# Altium footprint library libreriaPcb.PcbLib: 683 footprints (part 10 of 44)
Each footprint in its own frame and in the unit in brackets; x right, y up, seen from the top. Pads: shape width x height; smd on the part's side, far side on the other; paste and mask are expansions set on the pad; w line width, h text height; cw(c..) or ccw(c..) is an arc to the next point about the centre after c.
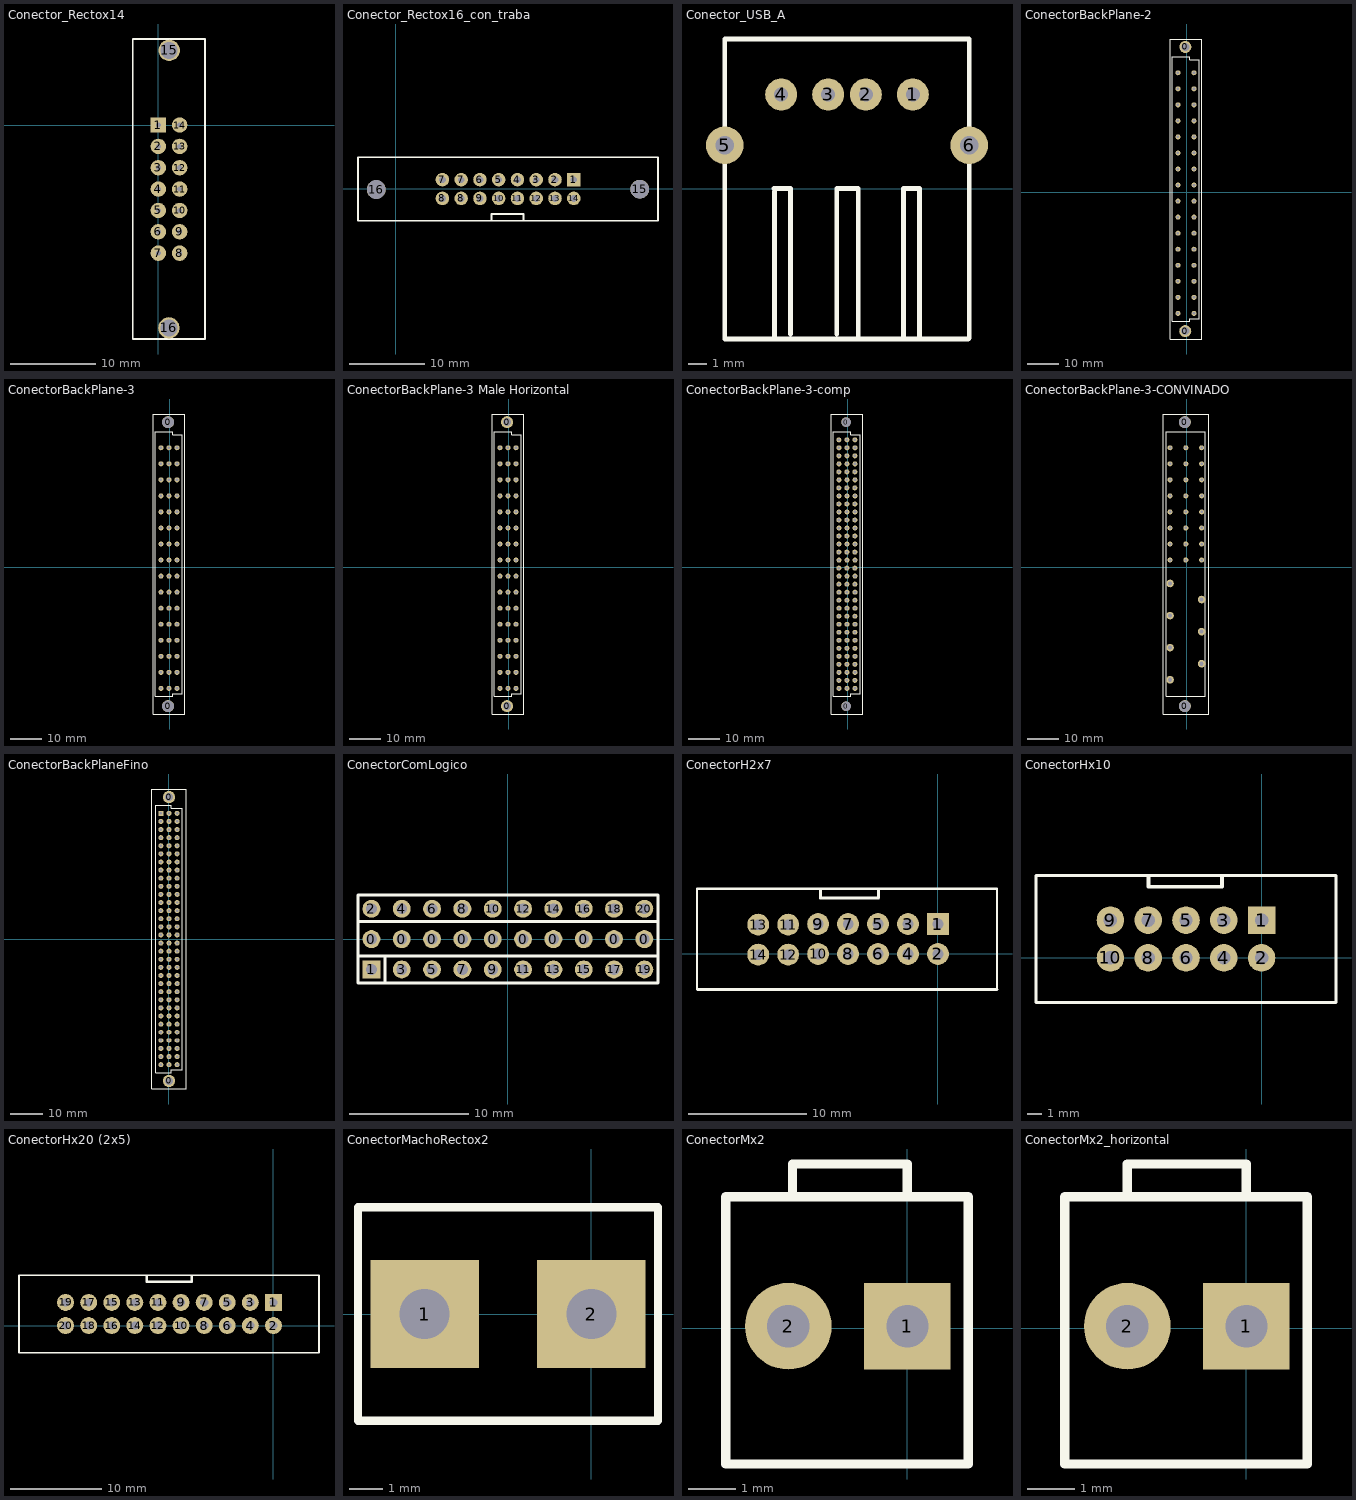
[diagram p9: the footprints below, top view; thin cyan lines are the x and y axes]

## Conector_Rectox14 [mm]
pads (16):
  rect 1.8x1.8 hole 0.6: 1(0,0)
  round 1.8 hole 0.6: 2(0,-2.5) 3(0,-5) 4(0,-7.5) 5(0,-10) 6(0,-12.5) 7(0,-15) 8(2.5,-15) 9(2.5,-12.5) 10(2.5,-10) 11(2.5,-7.5) 12(2.5,-5) 13(2.5,-2.5) 14(2.5,0)
  round 2.5 hole 2: 15(1.27,8.74) 16(1.24,-23.75)
Top Overlay:
  lines w0.2: 0,10.07 5.46,10.07 ; 0.68,10.07 -2.98,10.07 -2.98,-25.05 5.48,-25.05 ; 5.47,-24.96 5.47,10

## Conector_Rectox16_con_traba [mm]
pads (18):
  rect 1.8x1.8 hole 0.9: 1(23.75,1.24)
  round 1.8 hole 0.9: 2(21.25,1.24) 3(18.75,1.24) 4(16.25,1.24) 5(13.75,1.24) 6(11.25,1.24) 7(6.25,1.24) 7(8.75,1.24) 8(6.25,-1.26) 8(8.75,-1.26) 9(11.25,-1.26) 10(13.75,-1.26) 11(16.25,-1.26) 12(18.75,-1.26) 13(21.25,-1.26) 14(23.75,-1.26)
  round 2.5 hole 2.5: 15(32.55,-0.025) 16(-2.575,-0.075)
Top Overlay:
  lines w0.25: -5,-4.23 34.975,-4.23 34.975,4.22 -5,4.22 -5,-4.23
  lines w0.254: 12.8,-4.23 12.8,-3.35 17.075,-3.35 17.075,-4.23 ; 34.975,2.65 34.975,4.22
3D body: height 20, standoff 0, extent 30.65,-2 34.35,2
3D body: height 20, standoff 0, extent -4.4,-2.025 -0.7,1.975
3D body: height 12, standoff 0, extent 10.775,-1.72 11.675,-0.82
3D body: height 12, standoff 0, extent 10.775,0.78 11.675,1.68
3D body: height 12, standoff 0, extent 23.275,0.765 24.175,1.665
3D body: height 12, standoff 0, extent 23.275,-1.745 24.175,-0.845
3D body: height 12, standoff 0, extent 20.725,-1.77 21.625,-0.87
3D body: height 12, standoff 0, extent 18.225,0.74 19.125,1.64
3D body: height 12, standoff 0, extent 18.225,-1.77 19.125,-0.87
3D body: height 12, standoff 0, extent 20.725,0.73 21.625,1.63
3D body: height 12, standoff 0, extent 15.725,0.705 16.625,1.605
3D body: height 12, standoff 0, extent 13.225,-1.795 14.125,-0.895
3D body: height 12, standoff 0, extent 13.225,0.715 14.125,1.615
3D body: height 12, standoff 0, extent 15.725,-1.795 16.625,-0.895
3D body: height 12, standoff 0, extent 8.3,-1.71 9.2,-0.81
3D body: height 6, standoff 0, extent -5,-4.225 34.975,4.2
3D body: height 13, standoff 6, extent -5,-4.225 34.975,4.2
3D body: height 12, standoff 0, extent 5.8,0.8 6.7,1.7
3D body: height 12, standoff 0, extent 5.8,-1.71 6.7,-0.81
3D body: height 12, standoff 0, extent 8.3,0.79 9.2,1.69

## Conector_USB_A [mm]
pads (6):
  round 1.7 hole 0.75: 1(14.5,5) 2(12,5) 3(10,5) 4(7.5,5)
  round 2 hole 1: 5(4.5,2.3) 6(17.5,2.3)
Top Overlay:
  lines w0.254: 7.1,0 8,0 8,-7.75 ; 7.15,-7.9 7.15,-0.15 ; 10.45,-7.75 10.45,0 11.55,0 ; 11.6,-8 11.6,0 ; 14,-7.9 14,0 14.85,0 14.85,-8 ; 4.5,-8 17.4,-8 17.45,-8 17.5,-7.95 17.5,2.3 17.5,7.85 17.5,7.95 4.5,7.95 4.5,7.1 4.5,2.3 4.5,-8

## ConectorBackPlane-2 [mm]
pads (34):
  round 3.81 hole 2.54: 0(-0.527,-43.928) 0(-0.477,46.047)
  round 1.575 hole 0.8: 2A(-2.84,37.88) 2C(2.24,37.88) 4A(-2.84,32.8) 4C(2.24,32.8) 6A(-2.84,27.72) 6C(2.24,27.72) 8A(-2.84,22.64) 8C(2.24,22.64) 10A(-2.84,17.56) 10C(2.24,17.56) 12A(-2.84,12.48) 12C(2.24,12.48) 14A(-2.84,7.4) 14C(2.24,7.4) 16A(-2.84,2.32) 16C(2.24,2.32) 18A(-2.84,-2.76) 18C(2.24,-2.76) 20A(-2.84,-7.84) 20C(2.24,-7.84) 22A(-2.84,-12.92) 22C(2.24,-12.92) 24A(-2.84,-18) 24C(2.24,-18) 26A(-2.84,-23.08) 26C(2.24,-23.08) 30A(-2.84,-33.24) 30C(2.24,-33.24) 32A(-2.84,-38.32) 32C(2.24,-38.32)
  oval 1.575x1.575 hole 0.8: 28A(-2.84,-28.16) 28C(2.24,-28.16)
Bottom Layer:
  lines w0.356: -2.84,-3.141 -2.84,-2.76
Top Overlay:
  lines w0.254: -5.302,-46.428 -5.302,48.572 4.723,48.572 4.723,-46.428 -5.302,-46.428 ; -4.602,-40.863 0.873,-40.863 0.873,-39.974 3.939,-39.974 3.939,42.068 0.923,42.068 0.923,42.957 -4.602,42.957 -4.602,-40.863
3D body: height 6.5, standoff 0, extent -5.227,-46.403 4.748,48.547
3D body: height 13, standoff 0, extent -4.577,-40.803 3.973,42.847
3D body: height 6.6, standoff 0, extent -1.702,-45.427 1.298,-42.429
3D body: height 6.6, standoff 0, extent -1.652,44.548 1.348,47.546

## ConectorBackPlane-3 [mm]
pads (50):
  round 3.81 hole 3.7: 0(-0.6,-43.928) 0(-0.6,46)
  round 1.575 hole 0.8: 2A(-2.84,37.88) 2B(-0.3,37.88) 2C(2.24,37.88) 4A(-2.84,32.8) 4B(-0.3,32.8) 4C(2.24,32.8) 6A(-2.84,27.72) 6B(-0.3,27.72) 6C(2.24,27.72) 8A(-2.84,22.64) 8B(-0.3,22.64) 8C(2.24,22.64) 10A(-2.84,17.56) 10B(-0.3,17.56) 10C(2.24,17.56) 12A(-2.84,12.48) 12B(-0.3,12.48) 12C(2.24,12.48) 14A(-2.84,7.4) 14B(-0.3,7.4) 14C(2.24,7.4) 16A(-2.84,2.32) 16B(-0.3,2.32) 16C(2.24,2.32) 18A(-2.84,-2.76) 18B(-0.3,-2.76) 18C(2.24,-2.76) 20A(-2.84,-7.84) 20B(-0.3,-7.84) 20C(2.24,-7.84) 22A(-2.84,-12.92) 22B(-0.3,-12.92) 22C(2.24,-12.92) 24A(-2.84,-18) 24B(-0.3,-18) 24C(2.24,-18) 26A(-2.84,-23.08) 26B(-0.3,-23.08) 26C(2.24,-23.08) 30A(-2.84,-33.24) 30B(-0.3,-33.24) 30C(2.24,-33.24) 32A(-2.84,-38.32) 32B(-0.3,-38.32) 32C(2.24,-38.32)
  oval 1.575x1.575 hole 0.8: 28A(-2.84,-28.16) 28B(-0.3,-28.16) 28C(2.24,-28.16)
Top Overlay:
  lines w0.254: -5.302,-46.428 4.723,-46.428 4.723,48.572 -5.302,48.572 -5.302,-46.428 ; -4.602,-40.863 -4.602,42.957 0.923,42.957 0.923,42.068 3.939,42.068 3.939,-39.974 0.873,-39.974 0.873,-40.863 -4.602,-40.863
3D body: height 6.6, standoff 0, extent -2.152,44.448 0.848,47.446
3D body: height 6.6, standoff 0, extent -2.102,-45.452 0.898,-42.454
3D body: height 13, standoff 0, extent -4.577,-40.803 3.973,42.847
3D body: height 6.5, standoff 0, extent -5.227,-46.403 4.748,48.547

## ConectorBackPlane-3 Male Horizontal [mm]
pads (50):
  round 3.81 hole 2.54: 0(-0.6,-43.928) 0(-0.6,46)
  round 1.575 hole 0.8: 2A(-2.84,37.88) 2B(-0.3,37.88) 2C(2.24,37.88) 4A(-2.84,32.8) 4B(-0.3,32.8) 4C(2.24,32.8) 6A(-2.84,27.72) 6B(-0.3,27.72) 6C(2.24,27.72) 8A(-2.84,22.64) 8B(-0.3,22.64) 8C(2.24,22.64) 10A(-2.84,17.56) 10B(-0.3,17.56) 10C(2.24,17.56) 12A(-2.84,12.48) 12B(-0.3,12.48) 12C(2.24,12.48) 14A(-2.84,7.4) 14B(-0.3,7.4) 14C(2.24,7.4) 16A(-2.84,2.32) 16B(-0.3,2.32) 16C(2.24,2.32) 18A(-2.84,-2.76) 18B(-0.3,-2.76) 18C(2.24,-2.76) 20A(-2.84,-7.84) 20B(-0.3,-7.84) 20C(2.24,-7.84) 22A(-2.84,-12.92) 22B(-0.3,-12.92) 22C(2.24,-12.92) 24A(-2.84,-18) 24B(-0.3,-18) 24C(2.24,-18) 26A(-2.84,-23.08) 26B(-0.3,-23.08) 26C(2.24,-23.08) 30A(-2.84,-33.24) 30B(-0.3,-33.24) 30C(2.24,-33.24) 32A(-2.84,-38.32) 32B(-0.3,-38.32) 32C(2.24,-38.32)
  oval 1.575x1.575 hole 0.8: 28A(-2.84,-28.16) 28B(-0.3,-28.16) 28C(2.24,-28.16)
Top Overlay:
  lines w0.254: -5.302,-46.428 4.723,-46.428 4.723,48.572 -5.302,48.572 -5.302,-46.428 ; -4.602,-40.863 -4.602,42.957 0.923,42.957 0.923,42.068 3.939,42.068 3.939,-39.974 0.873,-39.974 0.873,-40.863 -4.602,-40.863
3D body: height 6.6, standoff 0, extent -2.152,44.448 0.848,47.446
3D body: height 6.6, standoff 0, extent -2.102,-45.452 0.898,-42.454
3D body: height 13, standoff 0, extent -4.577,-40.803 3.973,42.847
3D body: height 6.5, standoff 0, extent -5.227,-46.403 4.748,48.547

## ConectorBackPlane-3-comp [mm]
pads (98):
  round 3 hole 3: 0(-0.6,-43.95) 0(-0.6,46)
  round 1.575 hole 0.8: 1A(-2.875,40.4) 1B(-0.325,40.4) 1C(2.215,40.4) 2A(-2.84,37.861) 2B(-0.3,37.861) 2C(2.24,37.861) 3A(-2.865,35.321) 3B(-0.325,35.321) 3C(2.215,35.321) 4A(-2.84,32.782) 4B(-0.3,32.782) 4C(2.24,32.782) 5A(-2.865,30.243) 5B(-0.325,30.243) 5C(2.215,30.243) 6A(-2.84,27.703) 6B(-0.3,27.703) 6C(2.24,27.703) 7A(-2.865,25.164) 7B(-0.325,25.164) 7C(2.215,25.164) 8A(-2.84,22.624) 8B(-0.3,22.624) 8C(2.24,22.624) 9A(-2.865,20.085) 9B(-0.325,20.085) 9C(2.215,20.085) 10A(-2.84,17.546) 10B(-0.3,17.546) 10C(2.24,17.546) 11A(-2.865,15.006) 11B(-0.325,15.006) 11C(2.215,15.006) 12A(-2.84,12.467) 12B(-0.3,12.467) 12C(2.24,12.467) 13A(-2.865,9.928) 13B(-0.325,9.928) 13C(2.215,9.928) 14A(-2.84,7.388) 14B(-0.3,7.388) 14C(2.24,7.388) 15A(-2.865,4.849) 15B(-0.325,4.849) 15C(2.215,4.849) 16A(-2.84,2.31) 16B(-0.3,2.31) 16C(2.24,2.31) 17A(-2.865,-0.23) 17B(-0.325,-0.23) 17C(2.215,-0.23) 18A(-2.84,-2.769) 18B(-0.3,-2.769) 18C(2.24,-2.769) 19A(-2.865,-5.308) 19B(-0.325,-5.308) 19C(2.215,-5.308) 20A(-2.84,-7.848) 20B(-0.3,-7.848) 20C(2.24,-7.848) 21A(-2.865,-10.387) 21B(-0.325,-10.387) 21C(2.215,-10.387) 22A(-2.84,-12.926) 22B(-0.3,-12.926) 22C(2.24,-12.926) 23A(-2.865,-15.466) 23B(-0.325,-15.466) 23C(2.215,-15.466) 24A(-2.84,-18.005) 24B(-0.3,-18.005) 24C(2.24,-18.005) 25A(-2.865,-20.545) 25B(-0.325,-20.545) 25C(2.215,-20.545) 26A(-2.84,-23.084) 26B(-0.3,-23.084) 26C(2.24,-23.084) 29A(-2.865,-30.702) 29B(-0.325,-30.702) 29C(2.215,-30.702) 30A(-2.84,-33.241) 30B(-0.3,-33.241) 30C(2.24,-33.241) 31A(-2.865,-35.781) 31B(-0.325,-35.781) 31C(2.215,-35.781) 32A(-2.84,-38.32) 32B(-0.3,-38.32) 32C(2.24,-38.32)
  oval 1.575x1.575 hole 0.8: 27A(-2.865,-25.623) 27B(-0.325,-25.623) 27C(2.215,-25.623) 28A(-2.84,-28.162) 28B(-0.3,-28.162) 28C(2.24,-28.162)
Top Overlay:
  lines w0.254: -5.302,-46.428 -5.302,48.572 4.723,48.572 4.723,-46.428 -5.302,-46.428 ; -4.602,-40.863 0.873,-40.863 0.873,-39.974 3.939,-39.974 3.939,42.068 0.923,42.068 0.923,42.957 -4.602,42.957 -4.602,-40.863
3D body: height 6.5, standoff 0, extent -5.227,-46.403 4.748,48.547
3D body: height 13, standoff 0, extent -4.577,-40.803 3.973,42.847
3D body: height 6.6, standoff 0, extent -2.102,-45.452 0.898,-42.454
3D body: height 6.6, standoff 0, extent -2.152,44.448 0.848,47.446

## ConectorBackPlane-3-CONVINADO [mm]
pads (33):
  round 3.81 hole 3.7: 0(-0.6,-43.928) 0(-0.6,46)
  round 1.575 hole 0.8: 2A(-5.3,37.88) 2B(-0.3,37.88) 2C(4.7,37.88) 4A(-5.3,32.8) 4B(-0.3,32.8) 4C(4.7,32.8) 6A(-5.3,27.72) 6B(-0.3,27.72) 6C(4.7,27.72) 8A(-5.3,22.64) 8B(-0.3,22.64) 8C(4.7,22.64) 10A(-5.3,17.56) 10B(-0.3,17.56) 10C(4.7,17.56) 12A(-5.3,12.48) 12B(-0.3,12.48) 12C(4.7,12.48) 14A(-5.3,7.4) 14B(-0.3,7.4) 14C(4.7,7.4) 16A(-5.3,2.32) 16B(-0.3,2.32) 16C(4.7,2.32)
  round 2.4 hole 1.3: 20(-5.3,-5.1) 22(4.7,-10.18) 24(-5.3,-15.26) 26(4.7,-20.34) 28(-5.3,-25.42) 30(4.7,-30.5) 32(-5.3,-35.58)
Top Overlay:
  lines w0.254: -7.4,-46.428 -7.4,48.572 6.9,48.572 6.9,-46.428 -7.4,-46.428 ; -6.5,-40.863 0.873,-40.863 5.9,-40.863 5.9,42.957 0.923,42.957 -6.5,42.957 -6.5,-40.863
3D body: height 6.5, standoff 0, extent -7.4,-46.403 6.9,48.547
3D body: height 13, standoff 0, extent -6.5,-40.803 5.9,42.847
3D body: height 6.6, standoff 0, extent -2.102,-45.452 0.898,-42.454
3D body: height 6.6, standoff 0, extent -2.152,44.448 0.848,47.446

## ConectorBackPlaneFino [mil]
pads (98):
  round 150 hole 100: 0(0,-1750) 0(0,1750)
  rect 62x62 hole 30: 1A(-100,1550)
  round 62 hole 30: 1B(0,1550) 1C(100,1550) 2A(-100,1450) 2B(0,1450) 2C(100,1450) 3A(-100,1350) 3B(0,1350) 3C(100,1350) 4A(-100,1250) 4B(0,1250) 4C(100,1250) 5A(-100,1150) 5B(0,1150) 5C(100,1150) 6A(-100,1050) 6B(0,1050) 6C(100,1050) 7A(-100,950) 7B(0,950) 7C(100,950) 8A(-100,850) 8B(0,850) 8C(100,850) 9A(-100,750) 9B(0,750) 9C(100,750) 10A(-100,650) 10B(0,650) 10C(100,650) 11A(-100,550) 11B(0,550) 11C(100,550) 12A(-100,450) 12B(0,450) 12C(100,450) 13A(-100,350) 13B(0,350) 13C(100,350) 14A(-100,250) 14B(0,250) 14C(100,250) 15A(-100,150) 15B(0,150) 15C(100,150) 16A(-100,50) 16B(0,50) 16C(100,50) 17A(-100,-50) 17B(0,-50) 17C(100,-50) 18A(-100,-150) 18B(0,-150) 18C(100,-150) 19A(-100,-250) 19B(0,-250) 19C(100,-250) 20A(-100,-350) 20B(0,-350) 20C(100,-350) 21A(-100,-450) 21B(0,-450) 21C(100,-450) 22A(-100,-550) 22B(0,-550) 22C(100,-550) 23A(-100,-650) 23B(0,-650) 23C(100,-650) 24A(-100,-750) 24B(0,-750) 24C(100,-750) 25A(-100,-850) 25B(0,-850) 25C(100,-850) 26A(-100,-950) 26B(0,-950) 26C(100,-950) 27A(-100,-1050) 27B(0,-1050) 27C(100,-1050) 30A(-100,-1350) 30B(0,-1350) 30C(100,-1350) 31A(-100,-1450) 31B(0,-1450) 31C(100,-1450) 32A(-100,-1550) 32B(0,-1550) 32C(100,-1550)
  oval 62x50 hole 30: 28A(-100,-1150) 28B(0,-1150) 28C(100,-1150) 29A(-100,-1250) 29B(0,-1250) 29C(100,-1250)
Bottom Layer:
  lines w14: -100,-165 -100,-150 ; -100,-55 -100,-50 ; -100,945 -100,950 ; 100,-1550 125,-1550
Top Overlay:
  lines w10: -210,-1850 -210,1850 210,1850 210,-1850 -210,-1850 ; -165,-1650 30,-1650 30,-1615 165,-1615 165,1615 30,1615 30,1650 -165,1650 -165,-1650
3D body: height 255.91, standoff 0, extent -210.08,-1850.75 219.92,1859.25
3D body: height 511.81, standoff 0, extent -160.43,-1647.64 166.34,1645.67
3D body: height 259.84, standoff 0, extent -59.05,-1809.01 59.06,-1690.97
3D body: height 259.84, standoff 0, extent -59.05,1690.99 59.06,1809.03

## ConectorComLogico [mm]
pads (30):
  round 1.5 hole 0.9: 0(-11.43,0) 0(-8.89,0) 0(-6.35,0) 0(-3.81,0) 0(-1.27,0) 0(1.27,0) 0(3.81,0) 0(6.35,0) 0(8.89,0) 0(11.43,0) 2(-11.43,2.54) 3(-8.89,-2.54) 4(-8.89,2.54) 5(-6.35,-2.54) 6(-6.35,2.54) 7(-3.81,-2.54) 8(-3.81,2.54) 9(-1.27,-2.54) 10(-1.27,2.54) 11(1.27,-2.54) 12(1.27,2.54) 13(3.81,-2.54) 14(3.81,2.54) 15(6.35,-2.54) 16(6.35,2.54) 17(8.89,-2.54) 18(8.89,2.54) 19(11.43,-2.54) 20(11.43,2.54)
  rect 1.5x1.5 hole 0.9: 1(-11.43,-2.54)
Top Overlay:
  lines w0.254: -12.555,-1.397 12.573,-1.397 ; -12.555,1.46 12.573,1.46 ; -10.287,-3.665 -10.287,-1.415 ; -12.555,-3.665 -12.555,3.683 12.573,3.683 12.573,-3.665 -12.555,-3.665
3D body: height 4, standoff 0, extent -11.832,2.101 -10.932,3
3D body: height 4, standoff 0, extent -9.34,2.091 -8.44,2.99
3D body: height 4, standoff 0, extent -6.8,2.091 -5.9,2.99
3D body: height 4, standoff 0, extent -4.26,2.091 -3.36,2.99
3D body: height 4, standoff 0, extent -1.72,2.091 -0.82,2.99
3D body: height 4, standoff 0, extent 0.82,2.091 1.72,2.99
3D body: height 4, standoff 0, extent 3.36,2.091 4.26,2.99
3D body: height 4, standoff 0, extent 5.9,2.091 6.8,2.99
3D body: height 4, standoff 0, extent 8.44,2.091 9.34,2.99
3D body: height 4, standoff 0, extent 10.98,2.091 11.88,2.99
3D body: height 4, standoff 0, extent -11.88,-2.989 -10.98,-2.09
3D body: height 4, standoff 0, extent -9.34,-2.989 -8.44,-2.09
3D body: height 4, standoff 0, extent -6.8,-2.989 -5.9,-2.09
3D body: height 4, standoff 0, extent -4.26,-2.989 -3.36,-2.09
3D body: height 4, standoff 0, extent -1.72,-2.989 -0.82,-2.09
3D body: height 4, standoff 0, extent 0.82,-2.989 1.72,-2.09
3D body: height 4, standoff 0, extent 3.36,-2.989 4.26,-2.09
3D body: height 4, standoff 0, extent 5.9,-2.989 6.8,-2.09
3D body: height 4, standoff 0, extent 8.44,-2.989 9.34,-2.09
3D body: height 4, standoff 0, extent 10.98,-2.989 11.88,-2.09
3D body: height 2, standoff 0, extent -12.555,-3.665 12.573,3.683

## ConectorH2x7 [mm]
pads (14):
  rect 1.85x1.85 hole 0.9: 1(0,2.54)
  round 1.85 hole 0.9: 2(0,0) 3(-2.54,2.54) 4(-2.54,0) 5(-5.08,2.54) 6(-5.08,0) 7(-7.62,2.54) 8(-7.62,0) 9(-10.16,2.54) 10(-10.16,0) 11(-12.695,2.49) 12(-12.695,-0.05) 13(-15.235,2.49) 14(-15.235,-0.05)
Top Overlay:
  lines w0.2: -20.425,-2.997 5.004,-2.997 5.004,5.537 -20.425,5.537 -20.425,-2.997
  lines w0.254: -20.4,-2.997 5.004,-2.997 ; -9.97,5.436 -9.97,4.751 -9.944,4.725 -5.067,4.725 -5.042,4.751 -5.042,5.436
3D body: height 6, standoff 0, extent -0.397,-0.399 0.4,0.399
3D body: height 6, standoff 0, extent -2.937,-0.399 -2.14,0.399
3D body: height 6, standoff 0, extent -5.477,-0.399 -4.68,0.399
3D body: height 6, standoff 0, extent -8.017,-0.399 -7.22,0.399
3D body: height 6, standoff 0, extent -10.557,-0.399 -9.76,0.399
3D body: height 6, standoff 0, extent -0.397,2.141 0.4,2.939
3D body: height 6, standoff 0, extent -2.937,2.141 -2.14,2.939
3D body: height 6, standoff 0, extent -5.477,2.141 -4.68,2.939
3D body: height 6, standoff 0, extent -8.017,2.141 -7.22,2.939
3D body: height 6, standoff 0, extent -10.557,2.141 -9.76,2.939
3D body: height 8, standoff 0, extent -20.425,-2.997 5.004,5.537
3D body: height 1, standoff 0, extent -20.425,-3.097 5.104,5.637
3D body: height 6, standoff 0, extent -15.632,2.091 -14.835,2.889
3D body: height 6, standoff 0, extent -13.092,2.091 -12.295,2.889
3D body: height 6, standoff 0, extent -10.552,2.091 -9.755,2.889
3D body: height 6, standoff 0, extent -15.632,-0.449 -14.835,0.349
3D body: height 6, standoff 0, extent -13.092,-0.449 -12.295,0.349
3D body: height 6, standoff 0, extent -10.552,-0.449 -9.755,0.349

## ConectorHx10 [mm]
pads (10):
  rect 1.85x1.85 hole 0.9: 1(0,2.54)
  round 1.85 hole 0.9: 2(0,0) 3(-2.54,2.54) 4(-2.54,0) 5(-5.08,2.54) 6(-5.08,0) 7(-7.62,2.54) 8(-7.62,0) 9(-10.16,2.54) 10(-10.16,0)
Top Overlay:
  lines w0.2: -15.164,-2.997 -15.164,5.537 5.004,5.537 5.004,-2.997 -15.164,-2.997
  lines w0.254: -7.595,5.486 -7.595,4.801 -7.569,4.775 -2.642,4.775 -2.667,4.801 -2.667,5.486
3D body: height 1, standoff 0, extent -15.264,-3.097 5.104,5.637
3D body: height 8, standoff 0, extent -15.164,-2.997 5.004,5.537
3D body: height 6, standoff 0, extent -10.557,2.141 -9.76,2.939
3D body: height 6, standoff 0, extent -8.017,2.141 -7.22,2.939
3D body: height 6, standoff 0, extent -5.477,2.141 -4.68,2.939
3D body: height 6, standoff 0, extent -2.937,2.141 -2.14,2.939
3D body: height 6, standoff 0, extent -0.397,2.141 0.4,2.939
3D body: height 6, standoff 0, extent -10.557,-0.399 -9.76,0.399
3D body: height 6, standoff 0, extent -8.017,-0.399 -7.22,0.399
3D body: height 6, standoff 0, extent -5.477,-0.399 -4.68,0.399
3D body: height 6, standoff 0, extent -2.937,-0.399 -2.14,0.399
3D body: height 6, standoff 0, extent -0.397,-0.399 0.4,0.399

## ConectorHx20 (2x5) [mm]
pads (20):
  rect 1.85x1.85 hole 0.9: 1(0,2.54)
  round 1.85 hole 0.9: 2(0,0) 3(-2.54,2.54) 4(-2.54,0) 5(-5.08,2.54) 6(-5.08,0) 7(-7.62,2.54) 8(-7.62,0) 9(-10.16,2.54) 10(-10.16,0) 11(-12.7,2.54) 12(-12.7,0) 13(-15.24,2.54) 14(-15.24,0) 15(-17.78,2.54) 16(-17.78,0) 17(-20.32,2.54) 18(-20.32,0) 19(-22.86,2.54) 20(-22.86,0)
Top Overlay:
  lines w0.2: -27.975,-2.997 5.004,-2.997 5.004,5.537 -27.975,5.537 -27.975,-2.997
  lines w0.254: -13.92,5.511 -13.92,4.826 -13.894,4.8 -8.967,4.8 -8.992,4.826 -8.992,5.511
3D body: height 6, standoff 0, extent -0.397,-0.399 0.4,0.399
3D body: height 6, standoff 0, extent -2.937,-0.399 -2.14,0.399
3D body: height 6, standoff 0, extent -5.477,-0.399 -4.68,0.399
3D body: height 6, standoff 0, extent -8.017,-0.399 -7.22,0.399
3D body: height 6, standoff 0, extent -10.557,-0.399 -9.76,0.399
3D body: height 6, standoff 0, extent -0.397,2.141 0.4,2.939
3D body: height 6, standoff 0, extent -2.937,2.141 -2.14,2.939
3D body: height 6, standoff 0, extent -5.477,2.141 -4.68,2.939
3D body: height 6, standoff 0, extent -8.017,2.141 -7.22,2.939
3D body: height 6, standoff 0, extent -10.557,2.141 -9.76,2.939
3D body: height 8, standoff 0, extent -27.875,-2.997 5.004,5.537
3D body: height 1, standoff 0, extent -27.975,-3.097 5.104,5.637
3D body: height 6, standoff 0, extent -23.257,2.141 -22.46,2.939
3D body: height 6, standoff 0, extent -20.717,2.141 -19.92,2.939
3D body: height 6, standoff 0, extent -18.177,2.141 -17.38,2.939
3D body: height 6, standoff 0, extent -15.637,2.141 -14.84,2.939
3D body: height 6, standoff 0, extent -13.097,2.141 -12.3,2.939
3D body: height 6, standoff 0, extent -23.257,-0.399 -22.46,0.399
3D body: height 6, standoff 0, extent -20.717,-0.399 -19.92,0.399
3D body: height 6, standoff 0, extent -18.177,-0.399 -17.38,0.399
3D body: height 6, standoff 0, extent -15.637,-0.399 -14.84,0.399
3D body: height 6, standoff 0, extent -13.097,-0.399 -12.3,0.399

## ConectorMachoRectox2 [mm]
pads (2):
  rect 3.25x3.25 hole 1.5: 1(-5,0) 2(0,0)
Top Overlay:
  lines w0.254: -7,-3.2 -7,3.2 2,3.2 2,-3.2 -7,-3.2
3D body: height 17, standoff 16, extent -7.1,-3.202 1.9,-2.998
3D body: height 10, standoff -2, extent -0.694,-0.698 0.7,0.699
3D body: height 10, standoff -2, extent -5.694,-0.698 -4.3,0.699
3D body: height 17, standoff 0, extent -7.1,-3.302 1.9,-3.098
3D body: height 5.2, standoff 0, extent -7,-3.2 2,3.2

## ConectorMx2 [mm]
pads (2):
  rect 1.85x1.85 hole 0.9: 1(0,0.04)
  round 1.85 hole 0.9: 2(-2.54,0.04)
Top Overlay:
  lines w0.2: -2.45,2.8 -2.45,3.5 0,3.5 0,2.8 ; -3.875,-2.9 -3.875,2.8 1.3,2.8 1.3,-2.9 -3.875,-2.9
3D body: height 10, standoff 0.5, extent -2.54,2 0,2.8
3D body: height 1, standoff 0, extent -3.875,-2.9 1.3,2.8
3D body: height 6, standoff 0, extent -2.937,-0.359 -2.14,0.439
3D body: height 6, standoff 0, extent -0.397,-0.359 0.4,0.439

## ConectorMx2_horizontal [mm]
pads (2):
  rect 1.85x1.85 hole 0.9: 1(0,0.04)
  round 1.85 hole 0.9: 2(-2.54,0.04)
Top Overlay:
  lines w0.2: -2.54,2.8 -2.54,3.5 0,3.5 0,2.8 ; -3.875,-2.9 1.3,-2.9 1.3,2.8 -3.875,2.8 -3.875,-2.9
3D body: height 6, standoff 0, extent -0.4,-0.359 0.4,0.439
3D body: height 6, standoff 0, extent -2.94,-0.359 -2.14,0.439
3D body: height 5.8, standoff 0, extent -3.875,1.8 1.325,5.1
3D body: height 0.7, standoff 0, extent -2.54,5.1 0,13.3
3D body: height 3, standoff 2.21, extent -2.962,-0.373 -2.137,12.325
3D body: height 3, standoff 2.21, extent -0.412,-0.373 0.413,12.325